# EAGLE library part KXR94 (library kionix)
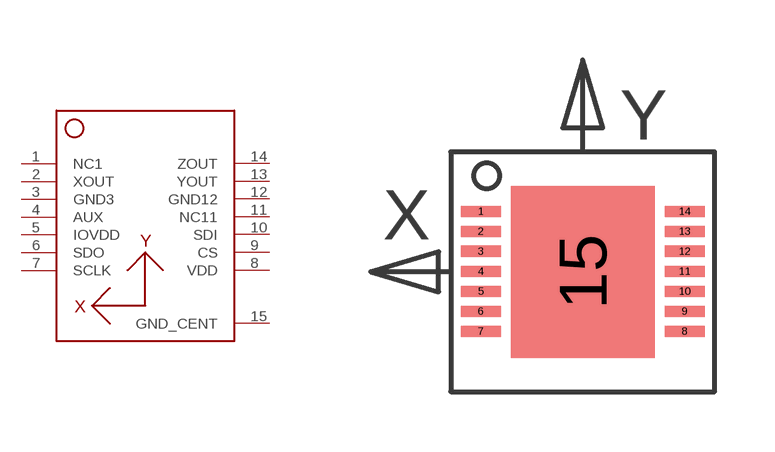
[diagram p0: symbol with the pads of 5X5_DFN; footprint 5X5_DFN]

Designator prefix -

## KXR94  [5X5_DFN]
1  NC1
2  XOUT
3  GND3
4  AUX
5  IOVDD
6  SDO
7  SCLK
8  VDD
9  CS
10  SDI
11  NC11
12  GND12
13  YOUT
14  ZOUT
15  GND_CENT

## Footprint 5X5_DFN (pad centres in mm)
smd 1 x 0.28: 1 -2.55,1.51; 2 -2.55,1.01; 3 -2.55,0.51; 4 -2.55,0.01; 5 -2.55,-0.49; 6 -2.55,-0.99; 7 -2.55,-1.49; 8 2.55,-1.49; 9 2.55,-0.99; 10 2.55,-0.49; 11 2.55,0.01; 12 2.55,0.51; 13 2.55,1.01; 14 2.55,1.51
smd 3.6 x 4.3: 15 0,0